# EAGLE library part PORT_USER_PET_EDGE (library commodore)
Userport Commodore PET/CBM, edge type
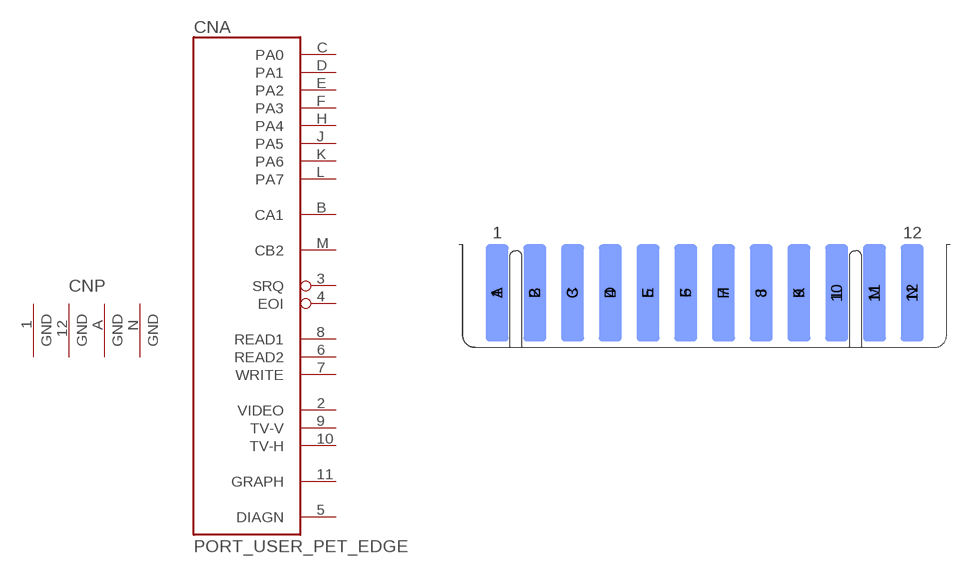
[diagram p42: symbol with the pads of MA156_12-2_USER; footprint MA156_12-2_USER]

Designator prefix CN; gates A=PORT_USER_PET_EDGE P=GND4

## PORT_USER_PET_EDGE  [MA156_12-2_USER]
1  P:GND  pwr
2  A:VIDEO  out
3  A:SRQ  in
4  A:EOI
5  A:DIAGN
6  A:READ2  in
7  A:WRITE  out
8  A:READ1  in
9  A:TV-V  out
10  A:TV-H  out
11  A:GRAPH  pas
12  P:GND  pwr
A  P:GND  pwr
B  A:CA1  in
C  A:PA0
D  A:PA1
E  A:PA2
F  A:PA3
H  A:PA4
J  A:PA5
K  A:PA6
L  A:PA7
M  A:CB2
N  P:GND  pwr

## Footprint MA156_12-2_USER (pad centres in mm)
smd 2.388 x 10.16: 1 -21.793,0; 2 -17.831,0; 3 -13.868,0; 4 -9.906,0; 5 -5.944,0; 6 -1.981,0; 7 1.981,0; 8 5.944,0; 9 9.906,0; 10 13.868,0; 11 17.831,0; 12 21.793,0
smd 2.388 x 10.16 bottom: A -21.793,0; B -17.831,0; C -13.868,0; D -9.906,0; E -5.944,0; F -1.981,0; H 1.981,0; J 5.944,0; K 9.906,0; L 13.868,0; M 17.831,0; N 21.793,0